# Altium footprint library 元器件.PCBLIB: 210 footprints (part 2 of 14)
Each footprint in its own frame and in the unit in brackets; x right, y up, seen from the top. Pads: shape width x height; smd on the part's side, far side on the other; paste and mask are expansions set on the pad; w line width, h text height; cw(c..) or ccw(c..) is an arc to the next point about the centre after c.
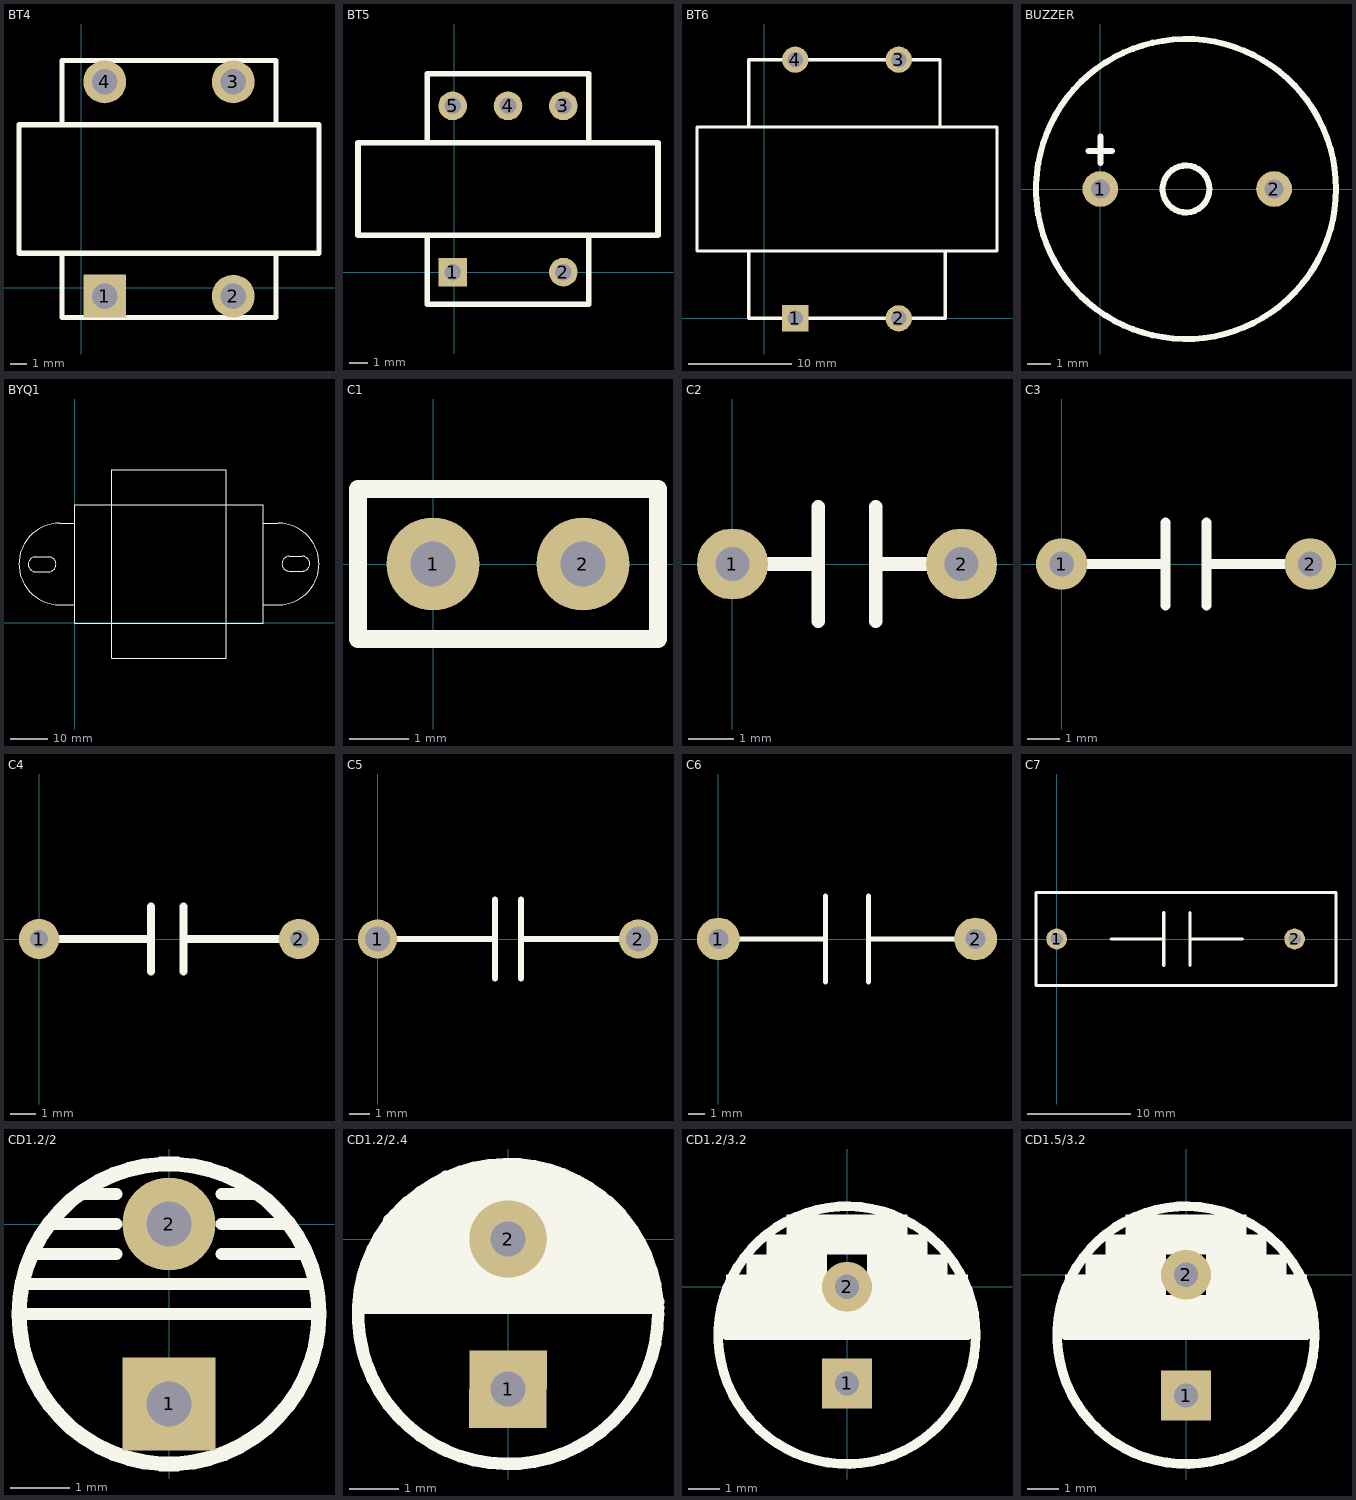
[diagram p1: the footprints below, top view; thin cyan lines are the x and y axes]

## BT4 [mm]
pads (4):
  rect 2.54x2.54 hole 1.524: 1(1.38,-0.5)
  round 2.54 hole 1.524: 2(9,-0.5) 3(9,12.2) 4(1.38,12.2)
TopOverlay:
  lines w0.305: -1.16,2.04 -1.16,-1.77 11.54,-1.77 11.54,2.04 ; -1.16,9.66 -1.16,13.47 11.54,13.47 11.54,9.66 ; -3.7,2.04 14.08,2.04 14.08,9.66 -3.7,9.66 -3.7,2.04

## BT5 [mil]
pads (5):
  rect 62x62 hole 36: 1(-3.78,0)
  round 62 hole 36: 2(236.22,0) 3(236.22,360) 4(116.22,360) 5(-3.78,360)
TopOverlay:
  lines w12: -58.78,80 -58.78,-70 291.22,-70 291.22,80 ; -58.78,280 -58.78,430 291.22,430 291.22,280 ; -208.78,80 -208.78,280 441.22,280 441.22,80 -208.78,80

## BT6 [mm]
pads (4):
  rect 2.54x2.54 hole 1.524: 1(3,0)
  round 2.54 hole 1.524: 2(13,0) 3(13,25) 4(3,25)
TopOverlay:
  lines w0.305: -1.5,6.5 -1.5,0 17.5,0 17.5,6.5 ; -1.5,18.5 -1.5,25 17,25 17,18.5 ; -6.5,6.5 -6.5,18.5 22.5,18.5 22.5,6.5 -6.5,6.5

## BUZZER [mm]
pads (2):
  round 1.5 hole 0.8: 1(0,0) 2(7.3,0)
TopOverlay:
  circle w0.254: c3.6,0 r0.985
  circle w0.254: c3.6,0 r6.3
  lines w0.254: -0.5,1.6 0.5,1.6 ; 0,1.1 0,2.2

## BYQ1 [mil]
TopOverlay:
  lines w12: -421.26,700.79 -275.59,700.79 cw(c-275.59,622.05) -275.59,543.31 -413.39,543.31 cw(c-413.39,622.05) -413.39,700.79 ; 0,192.91 -157.48,192.91 cw(c-157.48,625.98) -157.48,1059.06 0,1059.06 ; 2007.87,192.91 2165.35,192.91 ccw(c2165.35,625.98) 2165.35,1059.06 2007.87,1059.06 ; 2421.26,551.18 ccw(c2421.26,629.92) 2421.26,708.66 2283.46,708.66 ccw(c2283.46,629.92) 2283.46,551.18 2429.13,551.18 ; 0,-3.94 2007.87,-3.94 2007.87,1255.91 0,1255.91 0,-3.94 ; 397.64,-377.95 1610.24,-377.95 1610.24,1629.92 397.64,1629.92 397.64,-377.95

## C1 [mil]
pads (2):
  round 62 hole 30: 1(0,0) 2(100,0)
TopOverlay:
  lines w12: -50,-50 150,-50 150,50 -50,50 -50,-50

## C2 [mil]
pads (2):
  round 62 hole 30: 1(0,0) 2(200,0)
TopOverlay:
  lines w12: 0,0 75,0 ; 75,-50 75,50 ; 125,-50 125,50 ; 125,0 200,0

## C3 [mil]
pads (2):
  round 62 hole 30: 1(0,0) 2(300,0)
TopOverlay:
  lines w12: 0,0 125,0 ; 125,-50 125,50 ; 175,-50 175,50 ; 175,0 300,0

## C4 [mil]
pads (2):
  round 62 hole 28: 1(0,0) 2(400,0)
TopOverlay:
  lines w12: 0,0 172.24,0 ; 172.24,-50 172.24,50 ; 222.24,-50 222.24,50 ; 222.24,0 400,0

## C5 [mil]
pads (2):
  round 75 hole 48: 1(0,0) 2(500,0)
TopOverlay:
  lines w12: 0,0 225,0 ; 225,-75 225,75 ; 275,-75 275,75 ; 275,0 500,0

## C6 [mm]
pads (2):
  round 2.54 hole 1.2: 1(0,0) 2(15.24,0)
TopOverlay:
  lines w0.305: 1.27,0 6.35,0 ; 6.35,-2.54 6.35,2.54 ; 8.89,-2.54 8.89,2.54 ; 8.89,0 13.97,0

## C7 [mm]
pads (2):
  round 2 hole 1.2: 1(0,0) 2(23,0)
TopOverlay:
  lines w0.254: -2,-4.5 27,-4.5 27,4.5 -2,4.5 -2,-4.5
  lines w0.305: 5.27,0 10.35,0 ; 10.35,-2.54 10.35,2.54 ; 12.89,-2.54 12.89,2.54 ; 12.89,0 17.97,0

## CD1.2/2 [mil]
pads (2):
  rect 62x62 hole 30: 1(0,-120)
  round 62 hole 30: 2(0,0)
TopOverlay:
  circle w10: c0,-60 r100
  lines w8: -100,-60 100,-60 ; -95,-40 95,-40 ; -90,-20 -35,-20 ; -80,0 -35,0 ; -60,20 -35,20 ; 35,-20 90,-20 ; 35,0 80,0 ; 35,20 60,20

## CD1.2/2.4 [mil]
pads (2):
  rect 62x62 hole 28: 1(0,-120)
  round 62 hole 28: 2(0,0)
TopOverlay:
  circle w10: c0,-60 r120
  lines w10: -20,55 -25,50 -50,50 45,50 55,40 65,40 -60,40 -90.71,19.29 -90,20 90,20 80,30 -80,30 -95,15 90,15 85,20 100,5 -95,5 -100,0 -105,-5 105,-5 105,-10 110,-15 -105,-15 -110,-20 -110,-25 110,-25 115,-30 115,-35 -110,-35 -115,-40 -110,-40 -105,-45 115,-45 120,-50 -115,-50 -120,-55 120,-55

## CD1.2/3.2 [mil]
pads (2):
  rect 62x62 hole 30: 1(0,-120)
  round 62 hole 30: 2(0,0)
TopOverlay:
  circle w12: c0,-60 r160
  region: 75,65 75,90 -75,90 -75,65
  region: 25,40 25,90 -25,90 -25,40
  region: 125,15 125,40 100,40 100,15
  region: 150,-10 150,15 100,15 100,-10
  region: -100,15 -100,40 -125,40 -125,15
  region: -100,-10 -100,15 -150,15 -150,-10
  region: 100,-10 100,65 25,65 25,-10
  region: -25,-10 -25,65 -100,65 -100,-10
  region: 150,-60 150,-10 -150,-10 -150,-60
  lines w12: -150,-10 -150,-60 150,-60 150,-10

## CD1.5/3.2 [mil]
pads (2):
  rect 62x62 hole 30: 1(0,-150)
  round 62 hole 30: 2(0,0)
TopOverlay:
  circle w12: c0,-75 r160
  region: 75,50 75,75 -75,75 -75,50
  region: 25,25 25,75 -25,75 -25,25
  region: 125,0 125,25 100,25 100,0
  region: 150,-25 150,0 100,0 100,-25
  region: -100,0 -100,25 -125,25 -125,0
  region: -100,-25 -100,0 -150,0 -150,-25
  region: 100,-25 100,50 25,50 25,-25
  region: -25,-25 -25,50 -100,50 -100,-25
  region: 150,-75 150,-25 -150,-25 -150,-75
  lines w12: -150,-25 -150,-75 150,-75 150,-25